# Altium schematic symbol library 电压基准芯片.SchLib: 1 symbol
Pins are listed as number, name and electrical type; pins without a type are passive.

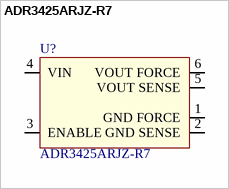
[diagram p0: symbol ADR3425ARJZ-R7]

## ADR3425ARJZ-R7
designator U?
pins: 1 GND FORCE, 2 GND SENSE, 3 ENABLE, 4 VIN, 5 VOUT SENSE, 6 VOUT FORCE